# EAGLE library part IP4292CZ10-TBR (library NXP_By_element14_Batch_1)
ultra high-speed interfaces
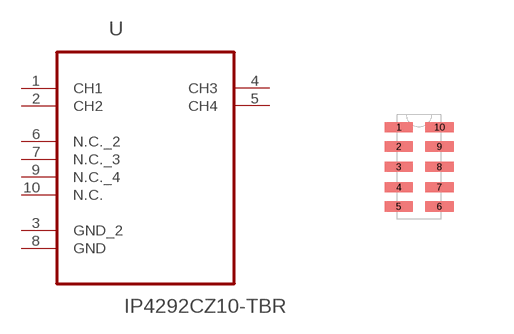
[diagram p299: symbol with the pads of SON50P100X255X50-10N; footprint SON50P100X255X50-10N]

Designator prefix U

## IP4292CZ10-TBR (MPN: IP4292CZ10-TBR; OC_FARNELL: 1972699; OC_NEWARK: 58T9593; PACKAGE: SON-10; SUPPLIER: NXP)  [SON50P100X255X50-10N]
1  CH1  pas
2  CH2  pas
3  GND_2  pas
4  CH3  pas
5  CH4  pas
6  N.C._2  nc
7  N.C._3  nc
8  GND  pas
9  N.C._4  nc
10  N.C.  nc

## Footprint SON50P100X255X50-10N (pad centres in mm)
smd 0.711 x 0.254: 1 -0.508,0.991; 2 -0.508,0.508; 3 -0.508,0; 4 -0.508,-0.508; 5 -0.508,-0.991; 6 0.508,-0.991; 7 0.508,-0.508; 8 0.508,0; 9 0.508,0.508; 10 0.508,0.991